# EAGLE library part ISL6353 (library ICs)
Multiphase PWM Regulator for VR12 DDR Memory Systems
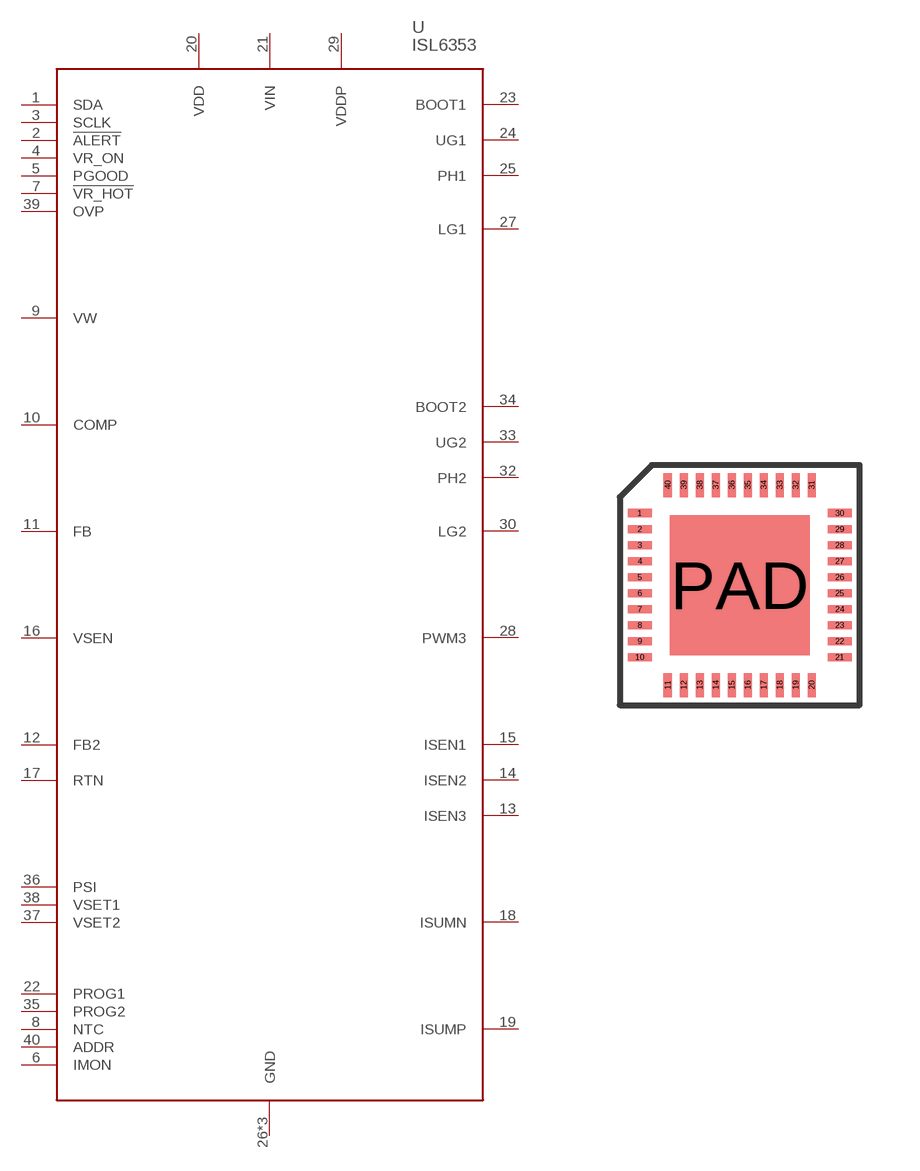
[diagram p173: symbol with the pads of VFQFN40; footprint VFQFN40]

Designator prefix U

## ISL6353 (DIGIKEY: ISL6353CRTZ-ND; HEIGHT: 0.75; PRICE_PER: 5.24; VALUE: ISL6353)  [VFQFN40]
1  SDA
2  !ALERT
3  SCLK
4  VR_ON
5  PGOOD
6  IMON
7  !VR_HOT
8  NTC
9  VW
10  COMP
11  FB
12  FB2
13  ISEN3
14  ISEN2
15  ISEN1
16  VSEN
17  RTN
18  ISUMN
19  ISUMP
20  VDD
21  VIN
22  PROG1
23  BOOT1
24  UG1
25  PH1
26  GND
27  LG1
28  PWM3
29  VDDP
30  LG2
31  GND
32  PH2
33  UG2
34  BOOT2
35  PROG2
36  PSI
37  VSET2
38  VSET1
39  OVP
40  ADDR
PAD  GND

## Footprint VFQFN40 (pad centres in mm)
smd 0.6 x 0.2: 1 -2.5,1.8; 2 -2.5,1.4; 3 -2.5,1; 4 -2.5,0.6; 5 -2.5,0.2; 6 -2.5,-0.2; 7 -2.5,-0.6; 8 -2.5,-1; 9 -2.5,-1.4; 10 -2.5,-1.8; 21 2.5,-1.8; 22 2.5,-1.4; 23 2.5,-1; 24 2.5,-0.6; 25 2.5,-0.2; 26 2.5,0.2; 27 2.5,0.6; 28 2.5,1; 29 2.5,1.4; 30 2.5,1.8
smd 0.2 x 0.6: 11 -1.8,-2.5; 12 -1.4,-2.5; 13 -1,-2.5; 14 -0.6,-2.5; 15 -0.2,-2.5; 16 0.2,-2.5; 17 0.6,-2.5; 18 1,-2.5; 19 1.4,-2.5; 20 1.8,-2.5; 31 1.8,2.5; 32 1.4,2.5; 33 1,2.5; 34 0.6,2.5; 35 0.2,2.5; 36 -0.2,2.5; 37 -0.6,2.5; 38 -1,2.5; 39 -1.4,2.5; 40 -1.8,2.5
smd 3.5 x 3.5: PAD 0,0